# Altium footprint library Infineon Transceiver.PcbLib: 19 footprints (part 2 of 2)
Each footprint in its own frame and in the unit in brackets; x right, y up, seen from the top. Pads: shape width x height; smd on the part's side, far side on the other; paste and mask are expansions set on the pad; w line width, h text height; cw(c..) or ccw(c..) is an arc to the next point about the centre after c.
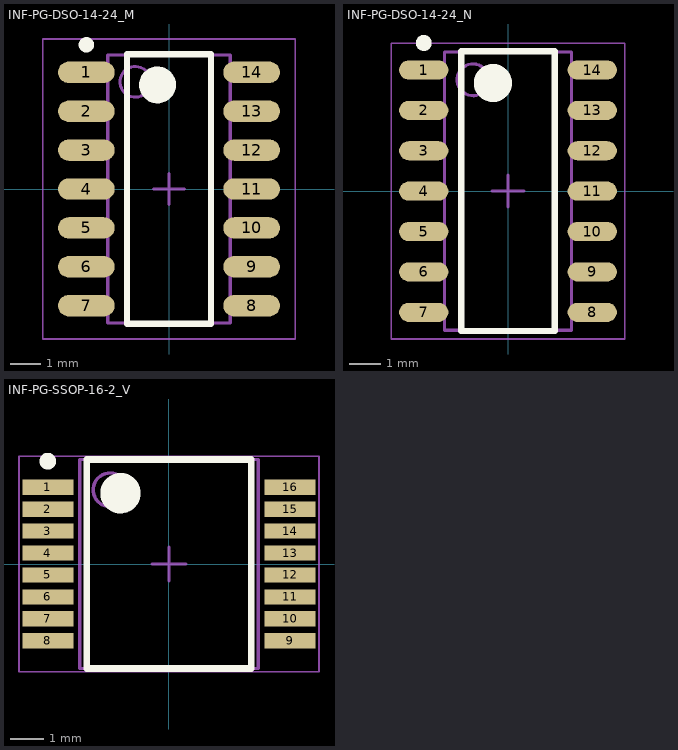
[diagram p1: the footprints below, top view; thin cyan lines are the x and y axes]

## INF-PG-DSO-14-24_M [mm] "SOP, 14-Leads, Body 8.65x3.9mm, Pitch 1.27mm, IPC Low Density"
height 1.75
pads (14):
  oval 1.85x0.7 smd: 1(-2.7,3.81) 2(-2.7,2.54) 3(-2.7,1.27) 4(-2.7,0) 5(-2.7,-1.27) 6(-2.7,-2.54) 7(-2.7,-3.81) 8(2.7,-3.81) 9(2.7,-2.54) 10(2.7,-1.27) 11(2.7,0) 12(2.7,1.27) 13(2.7,2.54) 14(2.7,3.81)
Top Overlay:
  circle w0.6: c-0.375,3.4 r0.3
  circle w0.25: c-2.7,4.71 r0.125
  lines w0.2: -1.375,-4.4 1.375,-4.4 1.375,4.4 -1.375,4.4 -1.375,-4.4
Mechanical 13:
  circle w0.1: c-1.1,3.5 r0.5
  lines w0.1: -2,-4.375 2,-4.375 2,4.375 -2,4.375 -2,-4.375
Mechanical 15:
  lines w0.05: -4.125,-4.9 4.125,-4.9 4.125,4.9 -4.125,4.9 -4.125,-4.9
  lines w0.1: -0.5,0 0.5,0 ; 0,-0.5 0,0.5
3D body: height 1.75, standoff 0.1, extent -2,-4.4 2,4.4

## INF-PG-DSO-14-24_N [mm] "SOP, 14-Leads, Body 8.65x3.9mm, Pitch 1.27mm, IPC Medium Density"
height 1.75
pads (14):
  oval 1.55x0.6 smd: 1(-2.65,3.81) 2(-2.65,2.54) 3(-2.65,1.27) 4(-2.65,0) 5(-2.65,-1.27) 6(-2.65,-2.54) 7(-2.65,-3.81) 8(2.65,-3.81) 9(2.65,-2.54) 10(2.65,-1.27) 11(2.65,0) 12(2.65,1.27) 13(2.65,2.54) 14(2.65,3.81)
Top Overlay:
  circle w0.6: c-0.475,3.4 r0.3
  circle w0.25: c-2.65,4.66 r0.125
  lines w0.2: -1.475,-4.4 1.475,-4.4 1.475,4.4 -1.475,4.4 -1.475,-4.4
Mechanical 13:
  circle w0.1: c-1.1,3.5 r0.5
  lines w0.1: -2,-4.375 2,-4.375 2,4.375 -2,4.375 -2,-4.375
Mechanical 15:
  lines w0.05: -3.675,-4.65 3.675,-4.65 3.675,4.65 -3.675,4.65 -3.675,-4.65
  lines w0.1: -0.5,0 0.5,0 ; 0,-0.5 0,0.5
3D body: height 1.75, standoff 0.1, extent -2,-4.4 2,4.4

## INF-PG-SSOP-16-2_V [mm] "SOP, 16-Leads, Body 6.2x5.3mm, Pitch 0.65mm"
height 2
pads (16):
  rect 1.51x0.45 smd: 1(-3.595,2.275) 2(-3.595,1.625) 3(-3.595,0.975) 4(-3.595,0.325) 5(-3.595,-0.325) 6(-3.595,-0.975) 7(-3.595,-1.625) 8(-3.595,-2.275) 9(3.595,-2.275) 10(3.595,-1.625) 11(3.595,-0.975) 12(3.595,-0.325) 13(3.595,0.325) 14(3.595,0.975) 15(3.595,1.625) 16(3.595,2.275)
Top Overlay:
  circle w0.25: c-3.595,3.05 r0.125
  circle w0.6: c-1.44,2.1 r0.3
  lines w0.2: -2.44,-3.1 2.44,-3.1 2.44,3.1 -2.44,3.1 -2.44,-3.1
Mechanical 13:
  circle w0.1: c-1.75,2.2 r0.5
  lines w0.1: -2.65,-3.1 2.65,-3.1 2.65,3.1 -2.65,3.1 -2.65,-3.1
Mechanical 15:
  lines w0.05: -4.45,-3.2 4.45,-3.2 4.45,3.2 -4.45,3.2 -4.45,-3.2
  lines w0.1: -0.5,0 0.5,0 ; 0,-0.5 0,0.5
3D body: height 2, standoff 0.05, extent -2.65,-3.1 2.65,3.1